# Altium footprint library ANT.PcbLib: 11 footprints
Each footprint in its own frame and in the unit in brackets; x right, y up, seen from the top. Pads: shape width x height; smd on the part's side, far side on the other; paste and mask are expansions set on the pad; w line width, h text height; cw(c..) or ccw(c..) is an arc to the next point about the centre after c.
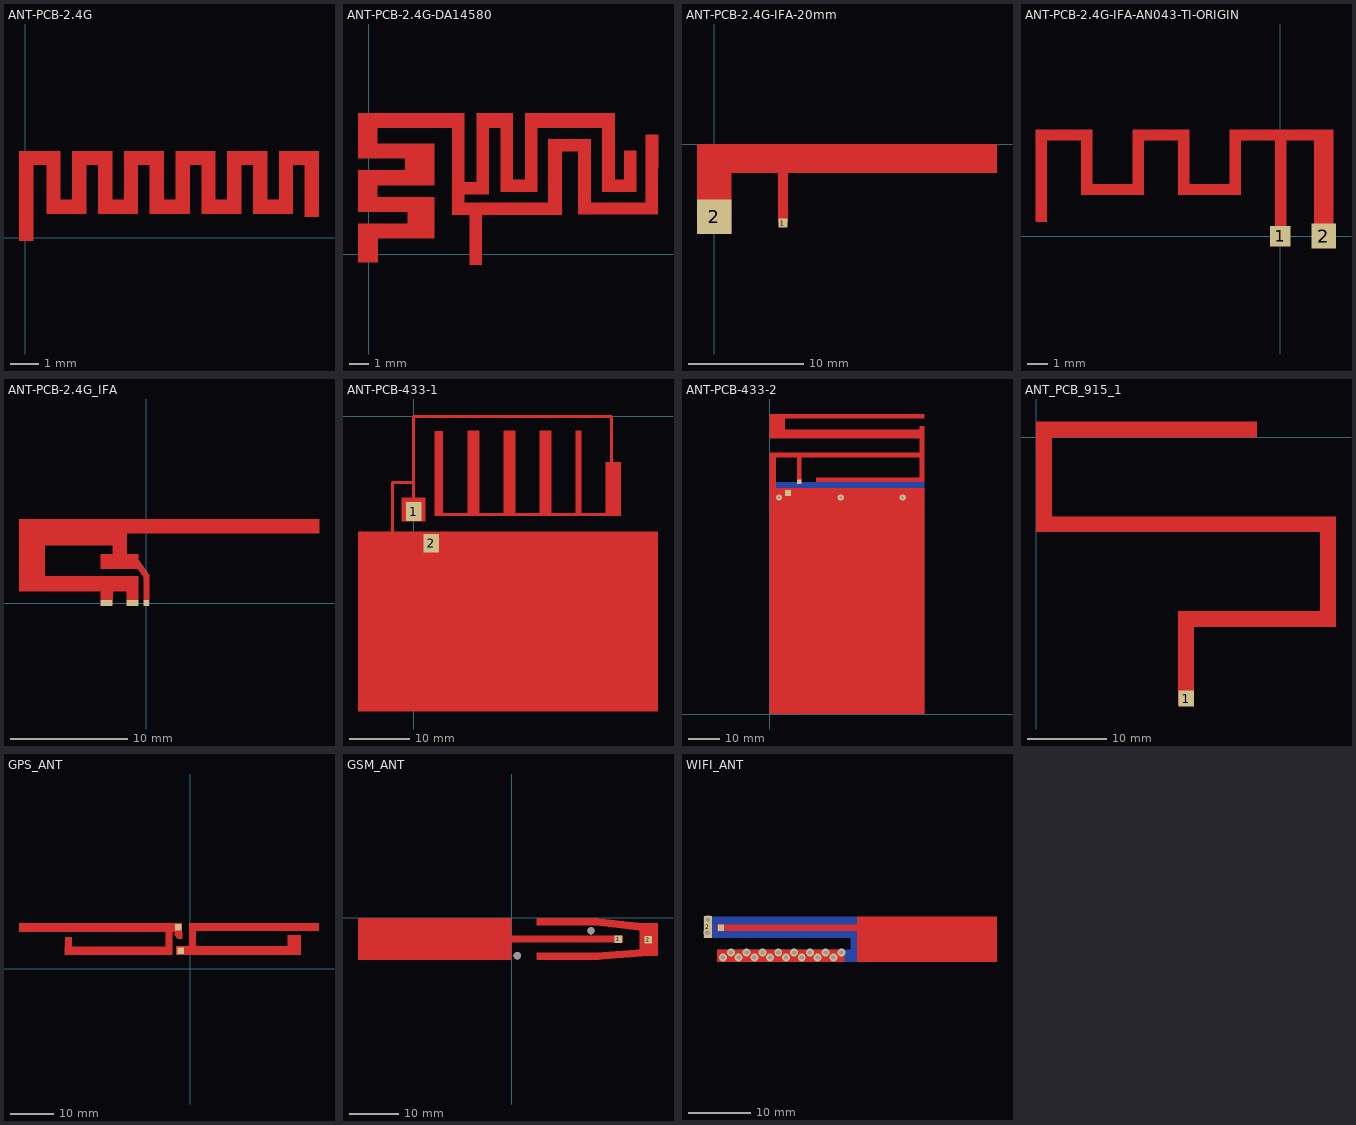
[diagram p0: the footprints below, top view; thin cyan lines are the x and y axes]

## ANT-PCB-2.4G [mm]
Top Layer:
  region: 3.939,3.023 3.439,3.023 3.439,0.823 3.939,0.823
  region: 8.839,3.023 8.839,2.523 10.239,2.523 10.239,3.023
  region: 7.039,3.023 7.039,2.523 8.439,2.523 8.439,3.023
  region: 9.339,3.023 8.839,3.023 8.839,0.823 9.339,0.823
  region: 8.439,3.023 7.939,3.023 7.939,0.823 8.439,0.823
  region: 7.539,3.023 7.039,3.023 7.039,0.823 7.539,0.823
  region: 5.239,3.023 5.239,2.523 6.639,2.523 6.639,3.023
  region: 6.639,3.023 6.139,3.023 6.139,0.823 6.639,0.823
  region: 3.439,3.023 3.439,2.523 4.839,2.523 4.839,3.023
  region: 10.239,3.023 9.739,3.023 9.739,0.723 10.239,0.723
  region: 5.739,3.023 5.239,3.023 5.239,0.823 5.739,0.823
  region: 7.939,1.323 7.939,0.823 9.339,0.823 9.339,1.323
  region: 6.139,1.323 6.139,0.823 7.539,0.823 7.539,1.323
  region: 4.839,3.023 4.339,3.023 4.339,0.823 4.839,0.823
  region: 4.339,1.323 4.339,0.823 5.739,0.823 5.739,1.323
  region: 1.639,3.023 1.639,2.523 3.039,2.523 3.039,3.023
  region: 2.139,3.023 1.639,3.023 1.639,0.823 2.139,0.823
  region: 2.539,1.323 2.539,0.823 3.939,0.823 3.939,1.323
  region: 3.039,3.023 2.539,3.023 2.539,0.823 3.039,0.823
  region: 1.239,3.023 0.739,3.023 0.739,0.823 1.239,0.823
  rectangle: -0.211,-0.109 0.289,3.023
  region: 0.739,1.323 0.739,0.823 2.139,0.823 2.139,1.323
  region: -0.211,3.023 -0.211,2.523 1.239,2.523 1.239,3.023

## ANT-PCB-2.4G-DA14580 [mm]
Top Layer:
  region: 5.316,-0.565 5.316,2.065 5.946,2.065 5.946,-0.565
  region: -0.554,-0.435 -0.554,0.835 0.466,0.835 0.466,-0.435
  region: -0.554,0.835 3.436,0.835 0.466,0.835
  region: -0.554,0.835 -0.554,1.595 3.436,1.595 3.436,0.835
  region: -0.554,1.595 2.046,1.595 3.436,1.595
  region: 5.316,2.065 10.136,2.065 5.946,2.065
  region: 5.316,2.065 4.396,2.065 10.136,2.065
  region: 15.186,2.085 11.006,2.085 15.186,2.085
  region: 2.046,1.595 2.046,2.225 3.436,2.225 3.436,1.595
  region: 2.046,2.225 -0.564,2.225 3.436,2.225
  region: 4.396,2.065 4.396,2.705 10.136,2.705 10.136,2.065
  region: 11.006,2.085 11.006,2.705 15.186,2.705 15.186,2.085
  region: 5.026,2.705 9.436,2.705 10.136,2.705
  region: 11.656,2.705 14.546,2.705 15.186,2.705
  region: -0.564,2.225 -0.564,2.995 3.436,2.995 3.436,2.225
  region: -0.564,2.995 0.456,2.995 3.436,2.995
  region: 4.396,2.705 4.396,3.145 5.026,3.145 5.026,2.705
  region: 4.396,3.145 6.296,3.145 5.026,3.145
  region: 8.836,3.275 6.936,3.275 8.836,3.275
  region: 14.046,3.275 12.266,3.275 14.046,3.275
  region: -0.564,2.995 -0.564,3.625 0.456,3.625 0.456,2.995
  region: -0.564,3.625 3.436,3.625 0.456,3.625
  region: 4.396,3.145 4.396,3.785 6.296,3.785 6.296,3.145
  region: 5.026,3.785 5.666,3.785 6.296,3.785
  region: 6.936,3.275 6.936,3.915 8.836,3.915 8.836,3.275
  region: 12.266,3.275 12.266,3.915 14.046,3.915 14.046,3.275
  region: 7.566,3.915 8.206,3.915 8.836,3.915
  region: 12.906,3.915 13.406,3.915 14.046,3.915
  region: -0.564,3.625 -0.564,4.395 3.436,4.395 3.436,3.625
  region: -0.564,4.395 1.916,4.395 3.436,4.395
  region: 1.916,4.395 1.916,5.025 3.436,5.025 3.436,4.395
  region: 1.916,5.025 -0.564,5.025 3.436,5.025
  region: 9.436,2.705 9.436,5.395 10.136,5.395 10.136,2.705
  region: 9.436,5.395 11.006,5.395 10.136,5.395
  region: 11.006,2.705 11.006,5.395 11.656,5.395 11.656,2.705
  region: 13.406,3.915 13.406,5.435 14.046,5.435 14.046,3.915
  region: 13.406,5.435 14.046,5.435
  region: -0.564,5.025 -0.564,5.785 3.436,5.785 3.436,5.025
  region: -0.564,5.785 0.456,5.785 3.436,5.785
  region: 9.436,5.395 9.436,6.045 11.656,6.045 11.656,5.395
  region: 9.436,6.045 11.656,6.045
  region: 14.546,2.705 14.546,6.275 15.186,6.275 15.186,2.705
  region: 14.546,6.275 15.186,6.275
  region: -0.564,5.785 -0.564,6.645 0.456,6.645 0.456,5.785
  region: 5.666,3.785 5.666,6.645 6.296,6.645 6.296,3.785
  region: 8.206,3.915 8.206,6.645 8.836,6.645 8.836,3.915
  region: -0.564,6.645 4.396,6.645 0.456,6.645
  region: 4.396,3.785 4.396,6.645 5.026,6.645 5.026,3.785
  region: 5.666,6.645 6.936,6.645 6.296,6.645
  region: 6.936,3.915 6.936,6.645 7.566,6.645 7.566,3.915
  region: 8.206,6.645 12.266,6.645 8.836,6.645
  region: 12.266,3.915 12.266,6.645 12.906,6.645 12.906,3.915
  region: -0.564,6.645 -0.564,7.405 5.026,7.405 5.026,6.645
  region: 5.666,6.645 5.666,7.405 7.566,7.405 7.566,6.645
  region: 8.206,6.645 8.206,7.405 12.906,7.405 12.906,6.645
  region: -0.564,7.405 5.026,7.405
  region: 5.666,7.405 7.566,7.405
  region: 8.206,7.405 12.906,7.405

## ANT-PCB-2.4G-IFA-20mm [mm]
pads (2):
  rect 0.8x0.8 smd: 1(5.974,-6.869)
  rect 3x3 smd: 2(0,-6.3)
Top Layer:
  rectangle: -1.499,-7.809 1.501,-0.009
  rectangle: -1.5,-2.5 24.6,0
  rectangle: 5.55,-6.8 6.4,0
  lines w0.254: 0,-6.541 0,-6.3

## ANT-PCB-2.4G-IFA-AN043-TI-ORIGIN [mm]
pads (2):
  rect 1x1 smd: 1(0,0)
  rect 1.2x1.2 smd: 2(2.1,0)
Top Layer:
  region: 2.575,5.165 2.575,-0.25 1.65,-0.25 1.65,4.64 0.276,4.64 0.276,-0.25 -0.25,-0.25 -0.25,4.64 -1.925,4.64 -1.925,2 -4.95,2 -4.95,4.64 -6.624,4.64 -6.624,2 -9.65,2 -9.65,4.64 -11.324,4.64 -11.324,0.7 -11.85,0.7 -11.85,0.715 -11.85,0.716 -11.85,5.163 -11.848,5.165 -9.125,5.165 -9.125,2.525 -7.15,2.525 -7.15,5.165 -4.425,5.165 -4.425,2.525 -2.45,2.525 -2.45,5.165

## ANT-PCB-2.4G_IFA [mm]
pads (3):
  rect 0.46x0.5 smd: 1(0,0)
  rect 1x0.5 smd: 2(-1.18,0) 3(-3.38,0)
Top Layer:
  region: -10.86,0.99 -10.86,7.16 14.72,7.16 14.72,5.95 -1.68,5.95 -1.68,4.15 -0.68,4.15 -0.68,3.648 0.23,2.328 0.23,0.25 -0.23,0.25 -0.23,2.185 -0.751,2.94 -3.88,2.94 -3.88,4.15 -2.88,4.15 -2.88,4.95 -8.68,4.95 -8.68,2.28 -0.68,2.28 -0.68,0.25 -1.68,0.25 -1.68,0.99 -2.88,0.99 -2.88,0.25 -3.88,0.25 -3.88,0.99
Mechanical 11:
  text "3" at -3.46,0 h0.2
  text "2" at -1.26,0 h0.2
  text "1" at -0.08,0 h0.2
Mechanical 13:
  lines w0.025: -0.68,3.648 0.23,2.328
Mechanical 16:
  lines w0.025: -3.88,-0.25 -3.88,0.25 ; 0.23,-0.25 0.23,0.25
  text "2011-09-19" at -10.645,1.157 h0.2
  text "ROBERT MITAL" at -10.645,1.907 h0.2
  text "MICHAL BLACHUCKI" at -10.645,1.507 h0.2

## ANT-PCB-433-1 [mm]
pads (2):
  rect 2.6x3.1 smd: 1(0.055,-15.852) 2(2.939,-21.171)
Top Layer:
  rectangle: 32.009,-16.632 32.009,-7.632
  rectangle: 32.012,-16.622 34.562,-7.622
  rectangle: -1.981,-17.517 2.019,-13.517
  rectangle: 3.477,-16.622 4.927,-2.422
  rectangle: 8.976,-16.523 10.976,-2.323
  rectangle: 14.976,-16.511 16.976,-2.311
  rectangle: 20.976,-16.511 22.976,-2.311
  rectangle: 26.976,-16.511 27.976,-2.311
  rectangle: -9.267,-49.2 40.733,-19.2
  lines w0.254: -3.511,-18.562 -3.5,-18.551 ; 32.849,-0.151 33,0
  lines w0.5: -3.5,-19.5 -3.5,-11 0,-11 ; 0,-13.5 0,0 33,0 ; 3.858,-16.363 32.849,-16.363 ; 33,-16.363 33,-0.151

## ANT-PCB-433-2 [mm]
pads (2):
  rect 1.5x1.5 smd: 1(9.523,75.135)
  rect 2x2 smd: 2(5.917,71.441)
via 43,70 diameter 2 hole 1
via 23,70 diameter 2 hole 1
via 3,70 diameter 2 hole 1
Top Layer:
  rectangle: 48.5,75 50,93.2
  rectangle: 15,75 50,76.5
  rectangle: 0,95.5 50,97
  rectangle: 0,89 5,97
  rectangle: 0,89 50,92
  rectangle: 8.8,74.5 10.3,83
  rectangle: 0,83 50,84.5
  rectangle: 0,73 2,83
  rectangle: 0,0 50,73
Bottom Layer:
  rectangle: 0,0 50,75

## ANT_PCB_915_1 [mm]
pads (1):
  rect 2x2 smd: 1(19.025,-33.092)
Top Layer:
  rectangle: 36,-24 38,-10
  rectangle: 0,-12 38,-10
  rectangle: 0,-12 2,2
  rectangle: 0,0 28,2
  rectangle: 18,-24 38,-22
  rectangle: 18,-34 20,-22

## GPS_ANT [mm]
pads (2):
  rect 1.524x1.524 smd: 1(-2.7,9.5) 2(-2.1,4.1)
Top Layer:
  rectangle: -0.21,8.62 29.43,10.47
  region: -1.8,10.5 -39.05,10.5 -39.05,8.4 -1.8,8.4
  rectangle: -3.2,3.12 25.3,5.2
  region: -3.99,5.05 -28.67,5.05 -28.67,3.2 -3.99,3.2
  rectangle: 22.19,3.2 25.3,7.7
  rectangle: -0.21,3.2 1.4,10.47
  rectangle: -5.6,3.2 -3.99,10.47
  rectangle: -28.6,3.1 -26.99,7.25
  region: -3.5,8.4 -1.9,8.4 -1.8,8.4 -1.8,8.3 -1.8,6.9 -2.8,6.9 -3.5,7.6

## GSM_ANT [mm]
pads (2):
  rect 1.5x1.5 smd: 1(21.584,-4.291) 2(27.619,-4.373)
via 1.165,-7.597 diameter 1.5 hole 1.5
via 16.045,-2.555 diameter 1.5 hole 1.5
Top Layer:
  rectangle: -31,-8.5 0,0
  rectangle: 0,-5 22.5,-3.5
  rectangle: 25.883,-7.68 29.583,-1.067
  region: 5.003,-1.521 17.536,-1.479 17.531,0.021 4.997,-0.021
  rectangle: 5,-8.5 17.781,-7
  region: 16.925,-1.552 26.304,-2.61 26.481,-1.038 17.102,0.02
  region: 17.188,-8.496 26.574,-7.73 26.451,-6.222 17.065,-6.988

## WIFI_ANT [mm]
pads (2):
  rect 1x1 smd: 1(-1262.5,-1242.7)
  rect 1.3x3.5 smd: 2(-1264.6,-1242.6)
via -1260.9,-1246.7 diameter 1.27 hole 0.711
via -1258.36,-1246.7 diameter 1.27 hole 0.711
via -1255.82,-1246.7 diameter 1.27 hole 0.711
via -1253.28,-1246.7 diameter 1.27 hole 0.711
via -1250.74,-1246.7 diameter 1.27 hole 0.711
via -1248.2,-1246.7 diameter 1.27 hole 0.711
via -1245.66,-1246.7 diameter 1.27 hole 0.711
via -1243.12,-1246.7 diameter 1.27 hole 0.711
via -1244.42,-1247.5 diameter 1.27 hole 0.711
via -1246.96,-1247.5 diameter 1.27 hole 0.711
via -1249.5,-1247.5 diameter 1.27 hole 0.711
via -1252.04,-1247.5 diameter 1.27 hole 0.711
via -1254.58,-1247.5 diameter 1.27 hole 0.711
via -1257.12,-1247.5 diameter 1.27 hole 0.711
via -1259.66,-1247.5 diameter 1.27 hole 0.711
via -1262.2,-1247.5 diameter 1.27 hole 0.711
via -1264.6,-1241.4 diameter 1.27 hole 0.711
via -1264.7,-1243.5 diameter 1.27 hole 0.711
Top Layer:
  rectangle: -1263.1,-1248.2 -1242.6,-1246.2
  rectangle: -1263.1,-1243.2 -1240.6,-1242.2
  rectangle: -1240.6,-1248.2 -1218.1,-1240.9
Bottom Layer:
  rectangle: -1263.1,-1248.2 -1241.7,-1246.2
  rectangle: -1241.7,-1248.2 -1240.6,-1243.9
  rectangle: -1265.3,-1244.4 -1240.6,-1240.9